# Altium footprint library Nixie.PcbLib: 2 footprints
Each footprint in its own frame and in the unit in brackets; x right, y up, seen from the top. Pads: shape width x height; smd on the part's side, far side on the other; paste and mask are expansions set on the pad; w line width, h text height; cw(c..) or ccw(c..) is an arc to the next point about the centre after c.
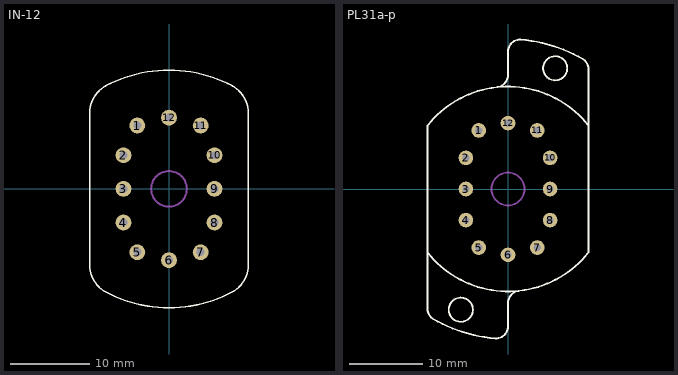
[diagram p0: the footprints below, top view; thin cyan lines are the x and y axes]

## IN-12 [mm]
pads (12):
  round 2 hole 1: 1(-4,8) 2(-5.75,4.25) 3(-5.75,0) 4(-5.75,-4.25) 5(-4,-8) 6(0,-9) 7(4,-8) 8(5.75,-4.25) 9(5.75,0) 10(5.75,4.25) 11(4,8) 12(0,9)
Top Overlay:
  lines w0.2: -10.002,-10.019 ccw(c-6.143,-9.616) -8.002,-13.022 ccw(c0,1.954) 8.002,-13.022 ccw(c6.143,-9.616) 10.002,-10.019 10.002,9.997 ccw(c6.143,9.594) 8.002,13 ccw(c0,-1.982) -8.002,13 ccw(c-6.143,9.594) -10.002,9.997 -10.002,-10.019
Mechanical 1:
  circle w0.254: c0,0 r2.25
3D body "??-12_????????????.STEP": height 20, standoff -9.5, extent -8.618,-12.5 8.619,12.5

## PL31a-p [mm]
pads (12):
  round 2 hole 1: 1(-4,8) 2(-5.75,4.25) 3(-5.75,0) 4(-5.75,-4.25) 5(-4,-8) 6(0,-9) 7(4,-8) 8(5.75,-4.25) 9(5.75,0) 10(5.75,4.25) 11(4,8) 12(0,9)
Top Overlay:
  circle w0.254: c-6.45,-16.5 r1.65
  circle w0.254: c6.45,16.5 r1.65
  lines w0.254: -11,-16.4 -11,8.685 ; -11,-16.375 ccw(c-9.35,-16.375) -10.311,-17.716 ; -10.981,-8.685 ccw(c0,0) 10.981,-8.685 ; -10.981,8.685 cw(c0,0) 10.981,8.685 ; -10.311,-17.718 ccw(c0,0) -1.703,-20.429 ; -1.726,-20.423 ccw(c-1.65,-18.775) 0,-18.775 ; -1.451,13.937 ccw(c-1.65,15.575) 0,15.575 0,18.8 ; 0,-18.8 0,-15.575 cw(c1.65,-15.575) 1.451,-13.937 ; 0,18.775 cw(c1.65,18.775) 1.726,20.423 ; 1.703,20.429 cw(c0,0) 10.311,17.718 ; 10.311,17.716 cw(c9.35,16.375) 11,16.375 ; 11,-8.685 11,16.4
Mechanical 1:
  circle w0.254: c0,0 r2.25
3D body "nixie-panel-asm.STEP": height 39.36, standoff -5.25, extent -11,-20.386 11,20.386